# Altium footprint library SB70A.PcbLib: 1 footprints
Each footprint in its own frame and in the unit in brackets; x right, y up, seen from the top. Pads: shape width x height; smd on the part's side, far side on the other; paste and mask are expansions set on the pad; w line width, h text height; cw(c..) or ccw(c..) is an arc to the next point about the centre after c.
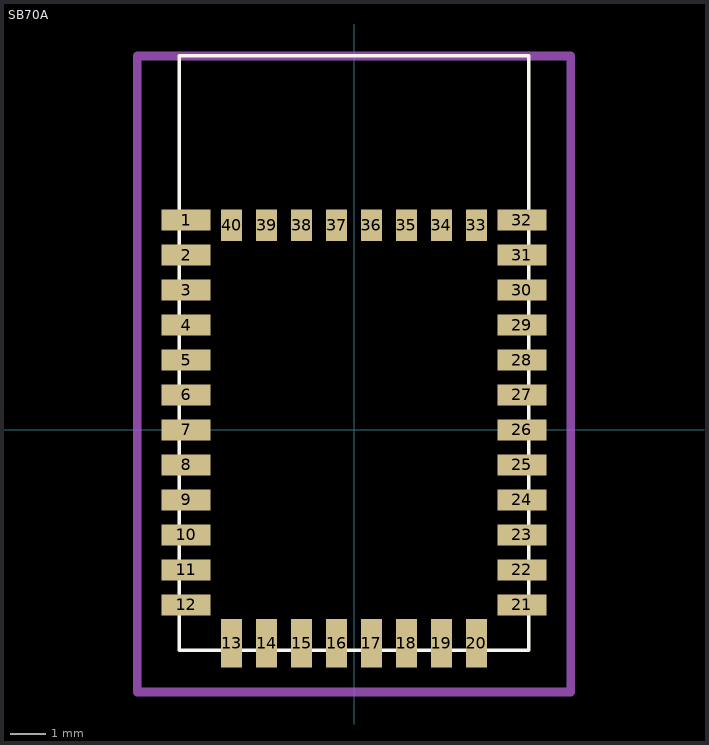
[diagram p0: the footprint, top view; thin cyan lines are the x and y axes]

## SB70A [mm]
height 2.1
pads (40):
  rect 1.4x0.6 smd: 1(-4.8,6) 2(-4.8,5) 3(-4.8,4) 4(-4.8,3) 5(-4.8,2) 6(-4.8,1) 7(-4.8,0) 8(-4.8,-1) 9(-4.8,-2) 10(-4.8,-3) 11(-4.8,-4) 12(-4.8,-5) 21(4.8,-5) 22(4.8,-4) 23(4.8,-3) 24(4.8,-2) 25(4.8,-1) 26(4.8,0) 27(4.8,1) 28(4.8,2) 29(4.8,3) 30(4.8,4) 31(4.8,5) 32(4.8,6)
  rect 0.6x1.4 smd: 13(-3.5,-6.1) 14(-2.5,-6.1) 15(-1.5,-6.1) 16(-0.5,-6.1) 17(0.5,-6.1) 18(1.5,-6.1) 19(2.5,-6.1) 20(3.5,-6.1)
  rect 0.6x0.9 smd: 33(3.5,5.85) 34(2.5,5.85) 35(1.5,5.85) 36(0.5,5.85) 37(-0.5,5.85) 38(-1.5,5.85) 39(-2.5,5.85) 40(-3.5,5.85)
Top Overlay:
  lines w0.1: -5,-6.3 -5,10.7 5,10.7 5,-6.3 -5,-6.3
Mechanical 1:
  text ".Designator" at -3.4,1.3 h2.5
Mechanical 15:
  lines w0.254: -6.2,-7.5 -6.2,10.7 6.2,10.7 6.2,-7.5 -6.2,-7.5
3D body: height 2.1, standoff 0, extent -5,-6.3 5,10.7